# Altium footprint library EIA.SMD.PcbLib: 40 footprints (part 2 of 3)
Each footprint in its own frame and in the unit in brackets; x right, y up, seen from the top. Pads: shape width x height; smd on the part's side, far side on the other; paste and mask are expansions set on the pad; w line width, h text height; cw(c..) or ccw(c..) is an arc to the next point about the centre after c.
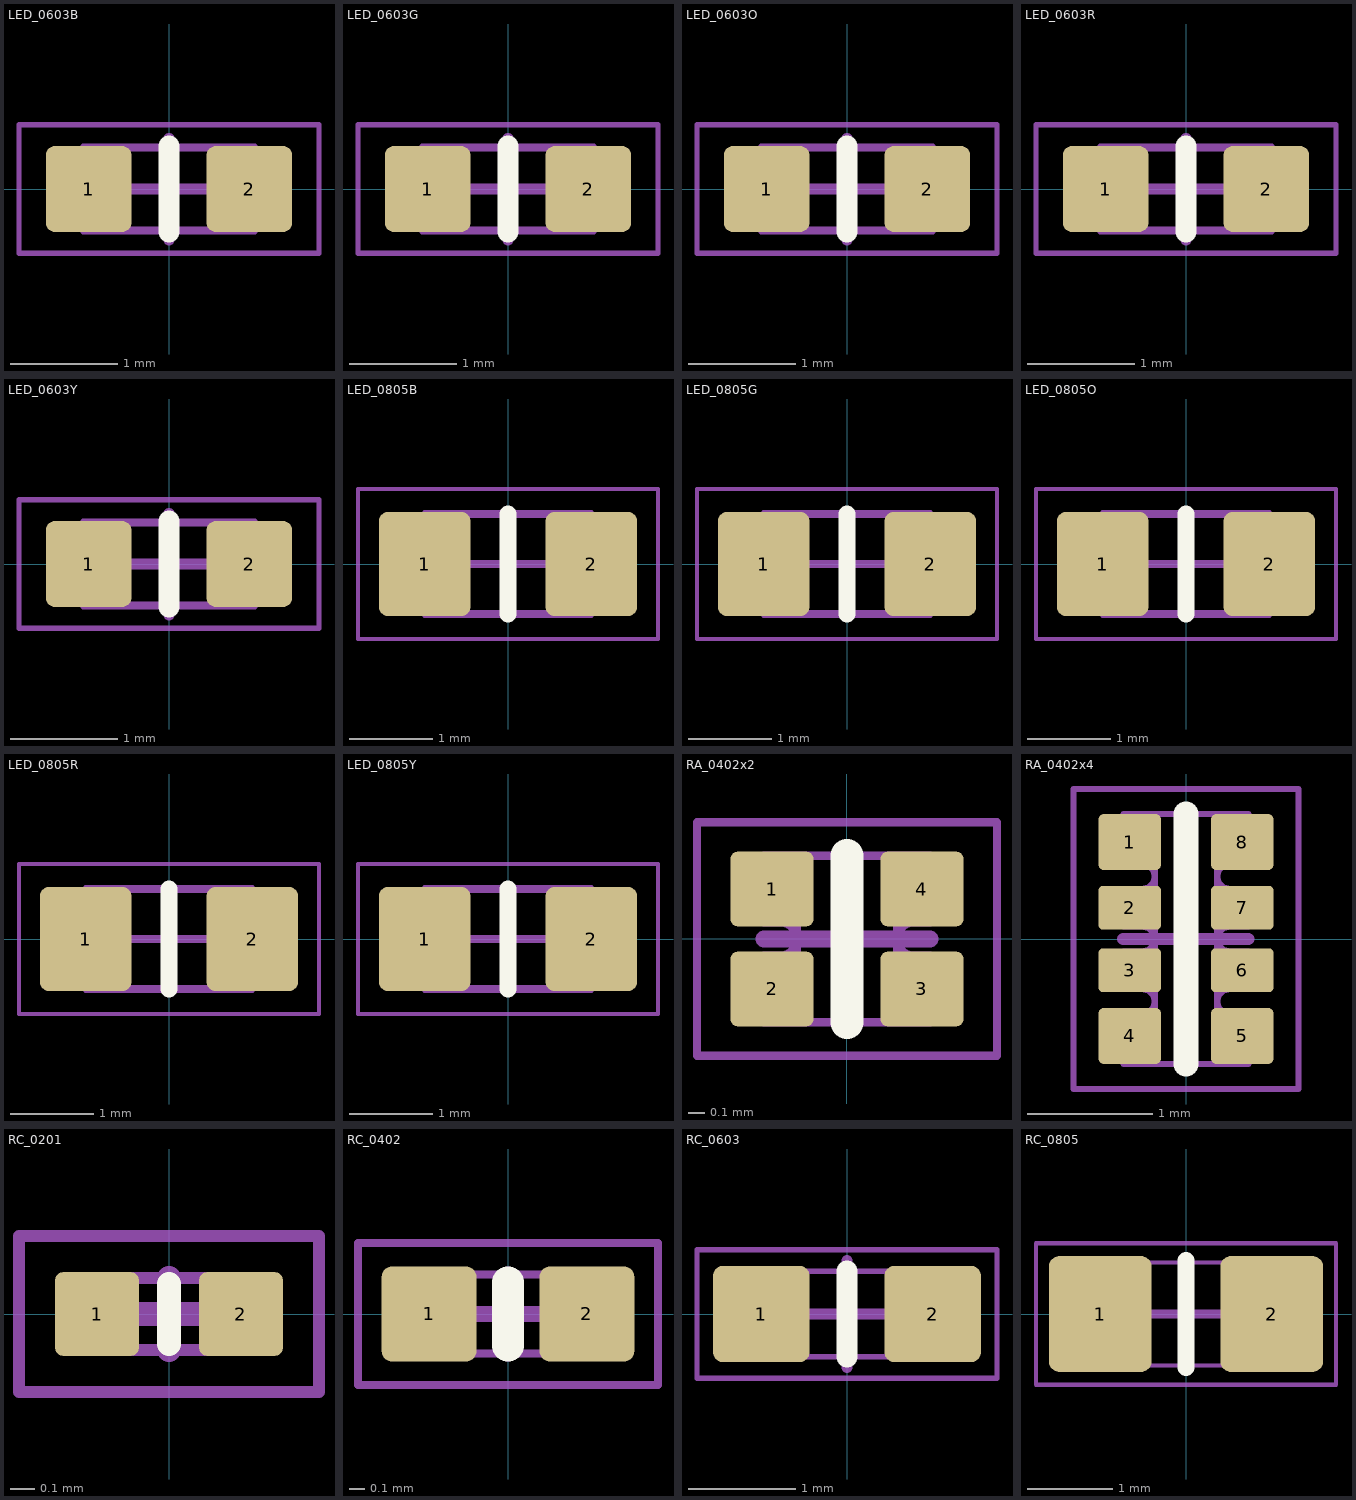
[diagram p1: the footprints below, top view; thin cyan lines are the x and y axes]

## LED_0603B [mm] "LED, Blue Color, 2-Leads, Body 1.6x0.8mm, IPC Medium Density"
height 0.55
pads (2):
  rrect20% 0.8x0.8 smd: 1(-0.75,0) 2(0.75,0)
Top Overlay:
  lines w0.2: 0,-0.4 0,0.4
Mechanical 1:
  lines w0.05: -0.55,-0.4 -0.55,0.4 ; -0.55,-0.35 -0.55,0.35 ; -0.5,0.4 0.5,0.4 ; 0.55,-0.4 0.55,-0.351 ; 0.55,-0.35 0.55,0.35 ; 0.55,0.351 0.55,0.4 ; -0.8,-0.4 -0.501,-0.4 0.5,-0.4 0.8,-0.4 0.8,-0.15 cw(c0.8,0) 0.8,0.15 0.8,0.4 -0.8,0.4 -0.8,0.15 cw(c-0.8,0) -0.8,-0.15 -0.8,-0.4 ; -0.523,-0.324 ccw(c-0.474,-0.324) -0.474,-0.373 0.474,-0.373 ccw(c0.474,-0.324) 0.523,-0.324 0.523,0.324 ccw(c0.474,0.324) 0.474,0.373 -0.474,0.373 ccw(c-0.474,0.324) -0.523,0.324 -0.523,-0.324
Mechanical 15:
  lines w0.05: -1.4,-0.6 -1.4,0.6 1.4,0.6 1.4,-0.6 -1.4,-0.6
  lines w0.1: -0.475,0 0.475,0 ; 0,-0.475 0,0.475
3D body "LED_0603B.STEP": height 0.53, standoff 0, extent -0.8,-0.4 0.8,0.4

## LED_0603G [mm] "LED, Green Color, 2-Leads, Body 1.6x0.8mm, IPC Medium Density"
height 0.55
pads (2):
  rrect20% 0.8x0.8 smd: 1(-0.75,0) 2(0.75,0)
Top Overlay:
  lines w0.2: 0,-0.4 0,0.4
Mechanical 1:
  lines w0.05: -0.55,-0.4 -0.55,0.4 ; -0.55,-0.35 -0.55,0.35 ; -0.5,0.4 0.5,0.4 ; 0.55,-0.4 0.55,-0.351 ; 0.55,-0.35 0.55,0.35 ; 0.55,0.351 0.55,0.4 ; -0.8,-0.4 -0.501,-0.4 0.5,-0.4 0.8,-0.4 0.8,-0.15 cw(c0.8,0) 0.8,0.15 0.8,0.4 -0.8,0.4 -0.8,0.15 cw(c-0.8,0) -0.8,-0.15 -0.8,-0.4 ; -0.523,-0.324 ccw(c-0.474,-0.324) -0.474,-0.373 0.474,-0.373 ccw(c0.474,-0.324) 0.523,-0.324 0.523,0.324 ccw(c0.474,0.324) 0.474,0.373 -0.474,0.373 ccw(c-0.474,0.324) -0.523,0.324 -0.523,-0.324
Mechanical 15:
  lines w0.05: -1.4,-0.6 -1.4,0.6 1.4,0.6 1.4,-0.6 -1.4,-0.6
  lines w0.1: -0.475,0 0.475,0 ; 0,-0.475 0,0.475
3D body "LED_0603G.STEP": height 0.53, standoff 0, extent -0.8,-0.4 0.8,0.4

## LED_0603O [mm] "LED, Orange Color, 2-Leads, Body 1.6x0.8mm, IPC Medium Density"
height 0.55
pads (2):
  rrect20% 0.8x0.8 smd: 1(-0.75,0) 2(0.75,0)
Top Overlay:
  lines w0.2: 0,-0.4 0,0.4
Mechanical 1:
  lines w0.05: -0.55,-0.4 -0.55,0.4 ; -0.55,-0.35 -0.55,0.35 ; -0.5,0.4 0.5,0.4 ; 0.55,-0.4 0.55,-0.351 ; 0.55,-0.35 0.55,0.35 ; 0.55,0.351 0.55,0.4 ; -0.8,-0.4 -0.501,-0.4 0.5,-0.4 0.8,-0.4 0.8,-0.15 cw(c0.8,0) 0.8,0.15 0.8,0.4 -0.8,0.4 -0.8,0.15 cw(c-0.8,0) -0.8,-0.15 -0.8,-0.4 ; -0.523,-0.324 ccw(c-0.474,-0.324) -0.474,-0.373 0.474,-0.373 ccw(c0.474,-0.324) 0.523,-0.324 0.523,0.324 ccw(c0.474,0.324) 0.474,0.373 -0.474,0.373 ccw(c-0.474,0.324) -0.523,0.324 -0.523,-0.324
Mechanical 15:
  lines w0.05: -1.4,-0.6 -1.4,0.6 1.4,0.6 1.4,-0.6 -1.4,-0.6
  lines w0.1: -0.475,0 0.475,0 ; 0,-0.475 0,0.475
3D body "LED_0603O.STEP": height 0.53, standoff 0, extent -0.8,-0.4 0.8,0.4

## LED_0603R [mm] "LED, Red Color, 2-Leads, Body 1.6x0.8mm, IPC Medium Density"
height 0.55
pads (2):
  rrect20% 0.8x0.8 smd: 1(-0.75,0) 2(0.75,0)
Top Overlay:
  lines w0.2: 0,-0.4 0,0.4
Mechanical 1:
  lines w0.05: -0.55,-0.4 -0.55,0.4 ; -0.55,-0.35 -0.55,0.35 ; -0.5,0.4 0.5,0.4 ; 0.55,-0.4 0.55,-0.351 ; 0.55,-0.35 0.55,0.35 ; 0.55,0.351 0.55,0.4 ; -0.8,-0.4 -0.8,-0.15 ccw(c-0.8,0) -0.8,0.15 -0.8,0.4 0.8,0.4 0.8,0.15 ccw(c0.8,0) 0.8,-0.15 0.8,-0.4 0.501,-0.4 -0.5,-0.4 -0.8,-0.4 ; -0.523,-0.324 ccw(c-0.474,-0.324) -0.474,-0.373 0.474,-0.373 ccw(c0.474,-0.324) 0.523,-0.324 0.523,0.324 ccw(c0.474,0.324) 0.474,0.373 -0.474,0.373 ccw(c-0.474,0.324) -0.523,0.324 -0.523,-0.324
Mechanical 15:
  lines w0.05: -1.4,-0.6 -1.4,0.6 1.4,0.6 1.4,-0.6 -1.4,-0.6
  lines w0.1: -0.475,0 0.475,0 ; 0,-0.475 0,0.475
3D body "LED_0603R.STEP": height 0.53, standoff 0, extent -0.8,-0.4 0.8,0.4

## LED_0603Y [mm] "LED, Yellow Color, 2-Leads, Body 1.6x0.8mm, IPC Medium Density"
height 0.55
pads (2):
  rrect20% 0.8x0.8 smd: 1(-0.75,0) 2(0.75,0)
Top Overlay:
  lines w0.2: 0,-0.4 0,0.4
Mechanical 1:
  lines w0.05: -0.55,-0.4 -0.55,0.4 ; -0.55,-0.35 -0.55,0.35 ; -0.5,0.4 0.5,0.4 ; 0.55,-0.4 0.55,-0.351 ; 0.55,-0.35 0.55,0.35 ; 0.55,0.351 0.55,0.4 ; -0.8,-0.4 -0.8,-0.15 ccw(c-0.8,0) -0.8,0.15 -0.8,0.4 0.8,0.4 0.8,0.15 ccw(c0.8,0) 0.8,-0.15 0.8,-0.4 0.501,-0.4 -0.5,-0.4 -0.8,-0.4 ; -0.523,-0.324 ccw(c-0.474,-0.324) -0.474,-0.373 0.474,-0.373 ccw(c0.474,-0.324) 0.523,-0.324 0.523,0.324 ccw(c0.474,0.324) 0.474,0.373 -0.474,0.373 ccw(c-0.474,0.324) -0.523,0.324 -0.523,-0.324
Mechanical 15:
  lines w0.05: -1.4,-0.6 1.4,-0.6 1.4,0.6 -1.4,0.6 -1.4,-0.6
  lines w0.1: -0.475,0 0.475,0 ; 0,-0.475 0,0.475
3D body "LED_0603Y.STEP": height 0.53, standoff 0, extent -0.8,-0.4 0.8,0.4

## LED_0805B [mm] "LED, Blue Color, 2-Leads, Body 2.0x1.25mm, IPC Medium Density"
height 0.8
pads (2):
  rrect20% 1.1x1.25 smd: 1(-1,0) 2(1,0)
Top Overlay:
  lines w0.2: 0,-0.6 0,0.6
Mechanical 1:
  lines w0.05: -0.65,-0.625 -0.65,0.625 ; 0.65,-0.625 0.65,0.625 ; -1,-0.625 -1,-0.3 ccw(c-1,0) -1,0.3 -1,0.625 1,0.625 1,0.3 ccw(c1,0) 1,-0.3 1,-0.625 -1,-0.625 ; -0.601,-0.527 ccw(c-0.551,-0.526) -0.552,-0.576 0.552,-0.576 ccw(c0.551,-0.526) 0.601,-0.527 0.601,0.527 ccw(c0.551,0.526) 0.552,0.576 -0.552,0.576 ccw(c-0.551,0.526) -0.602,0.527 -0.601,-0.527
Mechanical 15:
  lines w0.05: -1.8,-0.9 -1.8,0.9 1.8,0.9 1.8,-0.9 -1.8,-0.9
  lines w0.1: -0.5,0 0.5,0 ; 0,-0.5 0,0.5
3D body "LED_0805B.STEP": height 0.9, standoff 0, extent -1,-0.625 1,0.625

## LED_0805G [mm] "LED, Green Color, 2-Leads, Body 2.0x1.25mm, IPC Medium Density"
height 0.8
pads (2):
  rrect20% 1.1x1.25 smd: 1(-1,0) 2(1,0)
Top Overlay:
  lines w0.2: 0,-0.6 0,0.6
Mechanical 1:
  lines w0.05: -0.65,-0.625 -0.65,0.625 ; 0.65,-0.625 0.65,0.625 ; -1,-0.625 -1,-0.3 ccw(c-1,0) -1,0.3 -1,0.625 1,0.625 1,0.3 ccw(c1,0) 1,-0.3 1,-0.625 -1,-0.625 ; -0.601,-0.527 ccw(c-0.551,-0.526) -0.552,-0.576 0.552,-0.576 ccw(c0.551,-0.526) 0.601,-0.527 0.601,0.527 ccw(c0.551,0.526) 0.552,0.576 -0.552,0.576 ccw(c-0.551,0.526) -0.602,0.527 -0.601,-0.527
Mechanical 15:
  lines w0.05: -1.8,-0.9 -1.8,0.9 1.8,0.9 1.8,-0.9 -1.8,-0.9
  lines w0.1: -0.5,0 0.5,0 ; 0,-0.5 0,0.5
3D body "LED_0805G.STEP": height 0.9, standoff 0, extent -1,-0.625 1,0.625

## LED_0805O [mm] "LED, Orange Color, 2-Leads, Body 2.0x1.25mm, IPC Medium Density"
height 0.8
pads (2):
  rrect20% 1.1x1.25 smd: 1(-1,0) 2(1,0)
Top Overlay:
  lines w0.2: 0,-0.6 0,0.6
Mechanical 1:
  lines w0.05: -0.65,-0.625 -0.65,0.625 ; 0.65,-0.625 0.65,0.625 ; -1,-0.625 -1,-0.3 ccw(c-1,0) -1,0.3 -1,0.625 1,0.625 1,0.3 ccw(c1,0) 1,-0.3 1,-0.625 -1,-0.625 ; -0.601,-0.527 ccw(c-0.551,-0.526) -0.552,-0.576 0.552,-0.576 ccw(c0.551,-0.526) 0.601,-0.527 0.601,0.527 ccw(c0.551,0.526) 0.552,0.576 -0.552,0.576 ccw(c-0.551,0.526) -0.602,0.527 -0.601,-0.527
Mechanical 15:
  lines w0.05: -1.8,-0.9 -1.8,0.9 1.8,0.9 1.8,-0.9 -1.8,-0.9
  lines w0.1: -0.5,0 0.5,0 ; 0,-0.5 0,0.5
3D body "LED_0805O.STEP": height 0.9, standoff 0, extent -1,-0.625 1,0.625

## LED_0805R [mm] "LED, Red Color, 2-Leads, Body 2.0x1.25mm, IPC Medium Density"
height 0.8
pads (2):
  rrect20% 1.1x1.25 smd: 1(-1,0) 2(1,0)
Top Overlay:
  lines w0.2: 0,-0.6 0,0.6
Mechanical 1:
  lines w0.05: -0.65,-0.625 -0.65,0.625 ; 0.65,-0.625 0.65,0.625 ; -1,-0.625 -1,-0.3 ccw(c-1,0) -1,0.3 -1,0.625 1,0.625 1,0.3 ccw(c1,0) 1,-0.3 1,-0.625 -1,-0.625 ; -0.601,-0.527 ccw(c-0.551,-0.526) -0.552,-0.576 0.552,-0.576 ccw(c0.551,-0.526) 0.601,-0.527 0.601,0.527 ccw(c0.551,0.526) 0.552,0.576 -0.552,0.576 ccw(c-0.551,0.526) -0.602,0.527 -0.601,-0.527
Mechanical 15:
  lines w0.05: -1.8,-0.9 -1.8,0.9 1.8,0.9 1.8,-0.9 -1.8,-0.9
  lines w0.1: -0.5,0 0.5,0 ; 0,-0.5 0,0.5
3D body "LED_0805R.STEP": height 0.9, standoff 0, extent -1,-0.625 1,0.625

## LED_0805Y [mm] "LED, Yellow Color, 2-Leads, Body 2.0x1.25mm, IPC Medium Density"
height 0.8
pads (2):
  rrect20% 1.1x1.25 smd: 1(-1,0) 2(1,0)
Top Overlay:
  lines w0.2: 0,-0.6 0,0.6
Mechanical 1:
  lines w0.05: -0.65,-0.625 -0.65,0.625 ; 0.65,-0.625 0.65,0.625 ; -1,-0.625 1,-0.625 1,-0.3 cw(c1,0) 1,0.3 1,0.625 -1,0.625 -1,0.3 cw(c-1,0) -1,-0.3 -1,-0.625 ; -0.601,-0.527 ccw(c-0.551,-0.526) -0.552,-0.576 0.552,-0.576 ccw(c0.551,-0.526) 0.601,-0.527 0.601,0.527 ccw(c0.551,0.526) 0.552,0.576 -0.552,0.576 ccw(c-0.551,0.526) -0.602,0.527 -0.601,-0.527
Mechanical 15:
  lines w0.05: -1.8,-0.9 1.8,-0.9 1.8,0.9 -1.8,0.9 -1.8,-0.9
  lines w0.1: -0.5,0 0.5,0 ; 0,-0.5 0,0.5
3D body "LED_0805Y.STEP": height 0.9, standoff 0, extent -1,-0.625 1,0.625

## RA_0402x2 [mm] "Chip Array, ConvexS, 4-Leads, Pitch 0.65mm,  Body 1.00x1.00mm,  IPC Medium Density"
height 0.45
pads (4):
  rrect20% 0.5x0.45 smd: 1(-0.45,0.3) 2(-0.45,-0.3) 3(0.45,-0.3) 4(0.45,0.3)
Top Overlay:
  lines w0.2: 0,-0.5 0,0.5
Mechanical 1:
  lines w0.05: -0.44,-0.5 -0.44,-0.42 -0.3,-0.42 ; -0.44,-0.1 -0.44,-0.18 -0.3,-0.18 ; -0.44,0.1 -0.44,0.18 -0.3,0.18 ; -0.44,0.5 -0.44,0.42 -0.3,0.42 ; -0.42,-0.5 -0.42,-0.42 ; -0.42,-0.18 -0.42,-0.1 ; -0.42,0.1 -0.42,0.18 ; -0.42,0.42 -0.42,0.5 ; -0.3,-0.5 -0.3,0.5 ; 0.3,-0.5 0.3,0.5 ; 0.3,-0.42 0.44,-0.42 0.44,-0.5 ; 0.3,-0.18 0.44,-0.18 0.44,-0.1 ; 0.3,0.18 0.44,0.18 0.44,0.1 ; 0.3,0.42 0.44,0.42 0.44,0.5 ; 0.42,-0.5 0.42,-0.42 ; 0.42,-0.18 0.42,-0.1 ; 0.42,0.1 0.42,0.18 ; 0.42,0.42 0.42,0.5 ; -0.5,-0.5 0.5,-0.5 0.5,-0.1 0.4,-0.1 cw(c0.4,0) 0.4,0.1 0.5,0.1 0.5,0.5 -0.5,0.5 -0.5,0.1 -0.4,0.1 cw(c-0.4,0) -0.4,-0.1 -0.5,-0.1 -0.5,-0.5
Mechanical 15:
  lines w0.05: -0.9,-0.7 -0.9,0.7 0.9,0.7 0.9,-0.7 -0.9,-0.7
  lines w0.1: -0.5,0 0.5,0 ; 0,-0.5 0,0.5
3D body "R_Array_Convex_2x0402.step": height 0.35, standoff 0, extent -0.5,-0.5 0.5,0.5

## RA_0402x4 [mm] "Chip Resistor Array, Convex, 8-Leads, Pitch 0.50mm,  Body 2.00x1.00mm,  IPC Medium Density"
height 0.45
pads (8):
  rrect20% 0.5x0.45 smd: 1(-0.45,0.775) 4(-0.45,-0.775) 5(0.45,-0.775) 8(0.45,0.775)
  rrect20% 0.5x0.35 smd: 2(-0.45,0.25) 3(-0.45,-0.25) 6(0.45,-0.25) 7(0.45,0.25)
Top Overlay:
  lines w0.2: 0,-1 0,1
Mechanical 1:
  lines w0.05: -0.42,-1 -0.42,-0.92 -0.25,-0.92 ; -0.42,-0.6 -0.42,-0.68 -0.25,-0.68 ; -0.42,-0.4 -0.42,-0.34 -0.25,-0.34 ; -0.42,-0.1 -0.42,-0.16 -0.25,-0.16 ; -0.42,0.1 -0.42,0.16 -0.25,0.16 ; -0.42,0.4 -0.42,0.34 -0.25,0.34 ; -0.42,0.6 -0.42,0.68 -0.25,0.68 ; -0.42,1 -0.42,0.92 -0.25,0.92 ; -0.25,-1 -0.25,1 ; 0.25,-1 0.25,1 ; 0.25,-0.92 0.42,-0.92 0.42,-1 ; 0.25,-0.68 0.42,-0.68 0.42,-0.6 ; 0.25,-0.34 0.42,-0.34 0.42,-0.4 ; 0.25,-0.16 0.42,-0.16 0.42,-0.1 ; 0.25,0.16 0.42,0.16 0.42,0.1 ; 0.25,0.34 0.42,0.34 0.42,0.4 ; 0.25,0.68 0.42,0.68 0.42,0.6 ; 0.25,0.92 0.42,0.92 0.42,1 ; -0.5,-1 -0.5,-0.6 -0.35,-0.6 ccw(c-0.35,-0.5) -0.35,-0.4 -0.5,-0.4 -0.5,-0.1 -0.35,-0.1 ccw(c-0.35,0) -0.35,0.1 -0.5,0.1 -0.5,0.4 -0.35,0.4 ccw(c-0.35,0.5) -0.35,0.6 -0.5,0.6 -0.5,1 0.5,1 0.5,0.6 0.35,0.6 ccw(c0.35,0.5) 0.35,0.4 0.5,0.4 0.5,0.1 0.35,0.1 ccw(c0.35,0) 0.35,-0.1 0.5,-0.1 0.5,-0.4 0.35,-0.4 ccw(c0.35,-0.5) 0.35,-0.6 0.5,-0.6 0.5,-1 -0.5,-1
Mechanical 15:
  lines w0.05: -0.9,-1.2 -0.9,1.2 0.9,1.2 0.9,-1.2 -0.9,-1.2
  lines w0.1: -0.5,0 0.5,0 ; 0,-0.5 0,0.5
3D body "R_Array_Convex_4x0402.step": height 0.35, standoff 0, extent -0.5,-1 0.5,1

## RC_0201 [mm] "Chip Resistor, 2-Leads, Body 0.60x0.30mm, IPC Medium Density"
height 0.26
pads (2):
  rrect20% 0.35x0.35 smd: 1(-0.3,0) 2(0.3,0)
Top Overlay:
  lines w0.1: 0,-0.125 0,0.125
Mechanical 1:
  lines w0.05: -0.2,-0.15 -0.2,0.15 ; 0.2,-0.15 0.2,0.15 ; -0.3,-0.15 0.3,-0.15 0.3,0.15 -0.3,0.15 -0.3,-0.15
Mechanical 15:
  lines w0.05: -0.625,-0.325 0.625,-0.325 0.625,0.325 -0.625,0.325 -0.625,-0.325
  lines w0.1: -0.15,0 0.15,0 ; 0,-0.15 0,0.15
3D body "R_0201_0603Metric.step": height 0.23, standoff 0, extent -0.3,-0.15 0.3,0.15

## RC_0402 [mm] "Chip Resistor, 2-Leads, Body 1.0x0.5mm, IPC Medium Density"
height 0.5
pads (2):
  rrect20% 0.6x0.6 smd: 1(-0.5,0) 2(0.5,0)
Top Overlay:
  lines w0.2: 0,-0.2 0,0.2
Mechanical 1:
  lines w0.05: -0.3,-0.25 -0.3,0.25 ; 0.3,-0.25 0.3,0.25 ; -0.5,-0.25 0.5,-0.25 0.5,0.25 -0.5,0.25 -0.5,-0.25
Mechanical 15:
  lines w0.05: -0.95,-0.45 -0.95,0.45 0.95,0.45 0.95,-0.45 -0.95,-0.45
  lines w0.1: -0.25,0 0.25,0 ; 0,-0.25 0,0.25
3D body "R_0402_1005Metric.step": height 0.35, standoff 0, extent -0.5,-0.25 0.5,0.25

## RC_0603 [mm] "Chip Resistor, 2-Leads, Body 1.6x0.8mm, IPC Medium Density"
pads (2):
  rrect20% 0.9x0.9 smd: 1(-0.8,0) 2(0.8,0)
Top Overlay:
  lines w0.2: 0,-0.4 0,0.4
Mechanical 1:
  lines w0.05: -0.5,-0.4 -0.5,0.4 ; 0.5,-0.4 0.5,0.4 ; -0.8,-0.4 -0.8,0.4 0.8,0.4 0.8,-0.4 -0.8,-0.4
Mechanical 15:
  lines w0.05: -1.4,-0.6 -1.4,0.6 1.4,0.6 1.4,-0.6 -1.4,-0.6
  lines w0.1: -0.5,0 0.5,0 ; 0,-0.5 0,0.5
3D body "R_0603_1608Metric.step": height 0.45, standoff 0, extent -0.8,-0.4 0.8,0.4

## RC_0805 [mm] "Chip Resistor, 2-Leads, Body 2.0x1.25mm, IPC Medium Density"
height 0.6
pads (2):
  rrect20% 1.2x1.35 smd: 1(-1,0) 2(1,0)
Top Overlay:
  lines w0.2: 0,-0.625 0,0.625
Mechanical 1:
  lines w0.05: -0.7,-0.6 -0.7,0.6 ; 0.7,-0.6 0.7,0.6 ; -1,-0.6 -1,0.6 1,0.6 1,-0.6 -1,-0.6
Mechanical 15:
  lines w0.05: -1.75,-0.825 -1.75,0.825 1.75,0.825 1.75,-0.825 -1.75,-0.825
  lines w0.1: -0.5,0 0.5,0 ; 0,-0.5 0,0.5
3D body "R_0805_2012Metric.step": height 0.45, standoff 0, extent -1,-0.6 1,0.6